# Altium schematic symbol library schematic_library.SchLib: 30 symbols
Pins are listed as number, name and electrical type; pins without a type are passive.

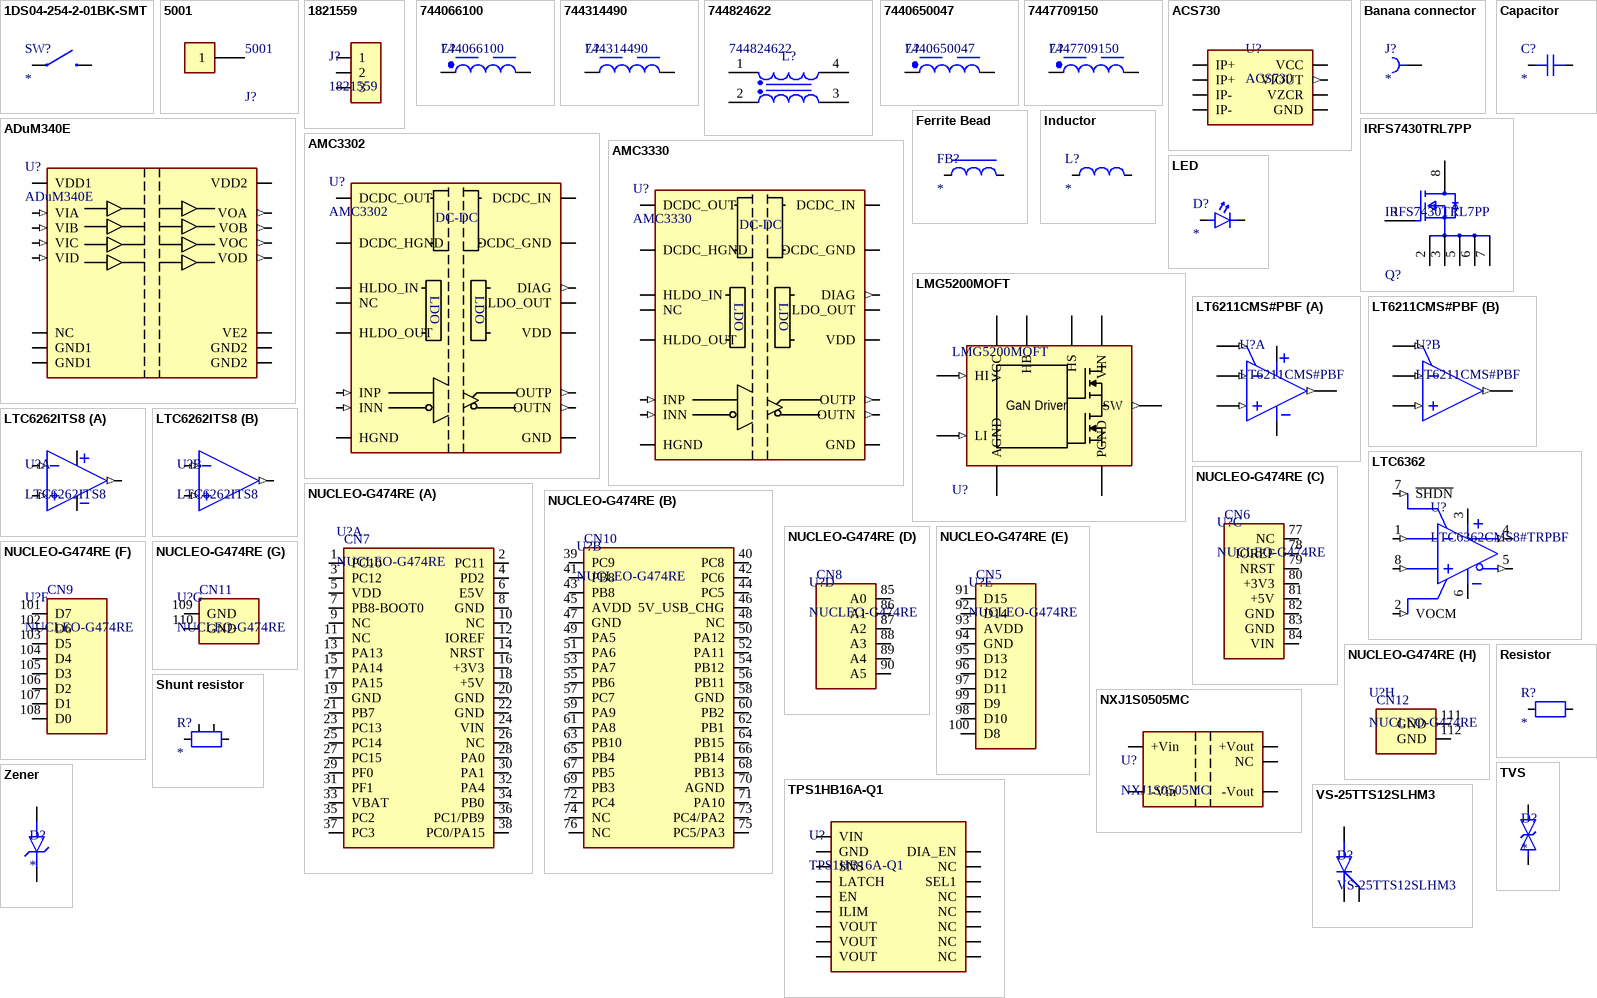
[diagram p0: symbols 1DS04-254-2-01BK-SMT to Zener]

## 1DS04-254-2-01BK-SMT
designator SW?
SPST 24VDC switch; Value: *; HelpURL: *; MPN: *; Supplier: *; SupplierPartNumber: *
footprint SPSTSW
pins: 1, 2

## 5001
designator J?
PC TEST POINT MINIATURE BLACK; Body Material: Bronze; Plating: Silver; Inside Diameter: 1.27mm; Hole Diameter: 1.6mm; Number of Ports: 1; Outside Diameter: 2.54mm; Insulation: Insulated; Insulation Material: Nylon; Mount: Through Hole; RoHS Compliant: Yes; Series: THM; Height: 0.3inch; Termination: Through Hole; Material: Nylon; Packaging: Bulk; Contact Material: Bronze; REACH SVHC: No SVHC; Contact Plating: Silver; Orientation: Straight; Lead Free: Lead Free; Package Quantity: 100; Length: 7.62mm; Flammability Rating: UL94 V-0; Number of Contacts: 1; Diameter: 2.54mm; Housing Color: Black; Color: Black
footprint FP-5001-MFG
pins: 1

## 1821559
designator J?
Value: *; HelpURL: *; MPN: *; Supplier: *; SupplierPartNumber: *
footprint 1844882
pins: 1, 2, 3

## 744066100
designator L?
NexarPartId: 22803276; Tolerance: 30%; Current Rating: 3.6A; Saturation Current: 4A; Shielding: Shielded; Resistance: 28mΩ; DC Resistance (DCR): 25mΩ; Series Resistance: 35mΩ; Inductance: 10µH; Core Material: Ferrite; Test Frequency: 100kHz; Self Resonant Frequency: 20MHz; Ambient Temperature Range Low: -40°C; RoHS: Compliant; Case/Package: Nonstandard; Number of Pins: 2; Width: 10mm; Max Operating Temperature: 125°C; Ambient Temperature Range High: 95°C; Length: 10mm; Min Operating Temperature: -40°C; REACH SVHC: Unknown; Termination: SMD/SMT; Height: 3.8mm; Max DC Current: 3.6A; Mount: Surface Mount; Weight: 1.273007g; Composition: Wirewound; RMS Current (Irms): 3.6A; Inductance Tolerance: 30%; Height - Seated (Max): 4.0894mm; Packaging: Cut Tape (CT); Depth: 10mm
footprint WE-TPC_1038 (Power Inductor, SMD, 2-Leads, body 10x10mm)
pins: 1, 2

## 744314490
designator L?
NexarPartId: 7864302; Self Resonant Frequency: 56MHz; Max DC Current: 6.5A; Tolerance: 20%; Test Frequency: 100kHz; Inductance: 4.9µH; Shielding: Shielded; Series Resistance: 14.5Ω; DC Resistance (DCR): 14.5mΩ; Case/Package: 7050; Number of Pins: 2; Lead Free: Lead Free; REACH SVHC: Unknown; Mount: Surface Mount; Packaging: Cut Tape (CT); Ambient Temperature Range Low: -40°C; Max Operating Temperature: 150°C; Depth: 7.2mm; Height: 4.8mm; Height - Seated (Max): 5.0038mm; Saturation Current: 6.5A; Military Standard: Not; Composition: Wirewound; Inductance Tolerance: 20%; Ambient Temperature Range High: 100°C; Length: 7mm; RoHS: Compliant; Width: 6.9mm; Resistance: 14.5mΩ; Min Operating Temperature: -40°C; Current Rating: 6.5A; Termination: SMD/SMT; RMS Current (Irms): 6.5A
footprint WE-HCI_7050 (SMT Flat Wire High Current Inductor, body 6.9x6.9mm)
pins: 1, 2

## 744824622
designator L?
NexarPartId: 22865134; Inductance Tolerance: 30%; Resistance: 20mΩ; Inductance: 2.2mH; Voltage Rating: 250V; Current Rating: 6A; Pin Length: 5mm; Width: 18.5mm; Ambient Temperature Range Low: -40°C; Min Operating Temperature: -40°C; Ambient Temperature Range High: 70°C; Number of Pins: 4; Packaging: Bulk; Length: 27.5mm; Max Operating Temperature: 125°C; RoHS: Compliant; Height: 33mm
footprint WE-CMB_Type L_L27.5W18.5H33 (Common Mode Power Line Choke, 4-Leads, body 27.5x18.5mm)
pins: 1, 2, 3, 4

## 7440650047
designator L?
NexarPartId: 8917112; Saturation Current: 4.2A; Resistance: 20mΩ; Self Resonant Frequency: 40MHz; Test Frequency: 100kHz; Core Material: Ferrite; Inductance Tolerance: 30%; Shielding: Shielded; Current Rating: 4.6A; Series Resistance: 23mΩ; Inductance: 4.7µH; DC Resistance (DCR): 16.5mΩ; Width: 10mm; Mount: Surface Mount; Depth: 10mm; Ambient Temperature Range High: 95°C; Length: 10mm; Tolerance: 30%; Number of Pins: 2; Ambient Temperature Range Low: -40°C; Packaging: Cut Tape (CT); Height: 2.8mm; Max Operating Temperature: 125°C; Height - Seated (Max): 3.0988mm; Case/Package: Nonstandard; Termination: SMD/SMT; Min Operating Temperature: -40°C; Weight: 880.989781mg; REACH SVHC: Unknown; RMS Current (Irms): 4.6A; Composition: Wirewound; Max DC Current: 4.6A; RoHS: Compliant
footprint WE-TPC_1028 (Power Inductor, SMD, 2-Leads, body 10x10mm)
pins: 1, 2

## 7447709150
designator L?
NexarPartId: 8917162; Max DC Current: 6.5A; Series Resistance: 26mΩ; Inductance: 15µH; Test Frequency: 1kHz; Core Material: Ferrite; Tolerance: 20%; Shielding: Shielded; Self Resonant Frequency: 17MHz; DC Resistance (DCR): 21mΩ; Saturation Current: 8A; Case/Package: Nonstandard; Composition: Wirewound; Case Code (Imperial): 1210; Width: 12mm; Termination: SMD/SMT; Resistance: 26mΩ; Max Operating Temperature: 125°C; Weight: 9.071847g; Min Operating Temperature: -40°C; Current Rating: 6.5A; Lead Free: Lead Free; Depth: 12mm; Mount: Surface Mount; Height - Seated (Max): 10.0076mm; Packaging: Cut Tape (CT); Case Code (Metric): 3225; Length: 12mm; Ambient Temperature Range High: 85°C; REACH SVHC: Unknown; Ambient Temperature Range Low: -40°C; Lead Pitch: 7mm; RoHS: Compliant; Number of Pins: 2; Inductance Tolerance: 20%; Height: 10mm; RMS Current (Irms): 6.5A
footprint WE-PD_1210 (SMT Shielded Power Inductor, 2-leads, body 12x12mm)
pins: 1, 2

## ACS730
designator U?
1 MHz Bandwidth, Galvanically Isolated Current Sensor IC in Small Footprint SOIC8 Package; Value: *; HelpURL: *; MPN: *; Supplier: *; SupplierPartNumber: *
footprint SOIC127P600X175-8N (SOIC, 8-Leads, Body 4,90x3,90mm, Pitch 1,27mm, IPC Medium Density)
pins: 1 IP+, 2 IP+, 3 IP-, 4 IP-, 5 GND (power), 6 VZCR, 7 VIOUT (out), 8 VCC (power)

## ADuM340E
designator U?
5.7 kV rms Quad Digital Isolators; Value: *; HelpURL: *; MPN: *; Supplier: *; SupplierPartNumber: *
footprint SOIC127P1030X265-16N (SOIC, 16-Leads, Body 10,30x7,50mm, Pitch 1,27mm, IPC Medium Density)
pins: 1 VDD1 (power), 2 GND1 (power), 3 VIA (in), 4 VIB (in), 5 VIC (in), 6 VID (in), 7 NC, 8 GND1 (power), 9 GND2 (power), 10 VE2, 11 VOD (out), 12 VOC (out), 13 VOB (out), 14 VOA (out), 15 GND2 (power), 16 VDD2 (power)

## AMC3302
designator U?
±50-mV input, precision current sensing reinforced isolated amplifier with integrated DC/DC; Value: *; HelpURL: *; MPN: *; Supplier: *; SupplierPartNumber: *
footprint SOIC127P1030X265-16N (SOIC, 16-Leads, Body 10,30x7,50mm, Pitch 1,27mm, IPC Medium Density)
pins: 1 DCDC_OUT (power), 2 DCDC_HGND, 3 HLDO_IN (power), 4 NC, 5 HLDO_OUT (power), 6 INP (in), 7 INN (in), 8 HGND, 9 GND (power), 10 OUTN (out), 11 OUTP (out), 12 VDD (power), 13 LDO_OUT (power), 14 DIAG (out), 15 DCDC_GND (power), 16 DCDC_IN (power)
text: DC-DC; LDO

## AMC3330
designator U?
±1-V input, precision voltage sensing reinforced isolated amplifier with integrated DC/DC; Value: *; HelpURL: *; MPN: *; Supplier: *; SupplierPartNumber: *
footprint SOIC127P1030X265-16N (SOIC, 16-Leads, Body 10,30x7,50mm, Pitch 1,27mm, IPC Medium Density)
pins: 1 DCDC_OUT (power), 2 DCDC_HGND (power), 3 HLDO_IN (power), 4 NC, 5 HLDO_OUT (power), 6 INP (in), 7 INN (in), 8 HGND (power), 9 GND (power), 10 OUTN (out), 11 OUTP (out), 12 VDD (power), 13 LDO_OUT (power), 14 DIAG (out), 15 DCDC_GND (power), 16 DCDC_IN (power)
text: DC-DC; LDO

## Banana connector
designator J?
Value: *; HelpURL: *; MPN: *; Supplier: *; SupplierPartNumber: *
footprint 571-0X00
pins: 1

## Capacitor
designator C?
Value: *; HelpURL: *; MPN: *; Supplier: *; SupplierPartNumber: *
footprint CAP0603 (Chip Capacitor, 2-Leads, Body 1,60x0,81mm, IPC Medium Density)
footprint CAP1206 (Chip Capacitor, 2-Leads, Body 3,20x1,60mm, IPC Medium Density)
footprint CAP2220 (Chip Capacitor, 2-Leads, Body 5,70x5,00mm, IPC Medium Density)
footprint WCAP-PSLC_D8H11.7 (Aluminum Polymer Capacitor, Diameter 8mm)
footprint WCAP-PSLC_D8H11.7 - small (Aluminum Polymer Capacitor, Diameter 8mm)
pins: 1, 2

## Ferrite Bead
designator FB?
Value: *; HelpURL: *; MPN: *; Supplier: *; SupplierPartNumber: *
footprint FB0402
footprint RES0603 (Chip Resistor, 2-Leads, Body 1,60x0,80mm, IPC Medium Density)
pins: 1, 2

## Inductor
designator L?
Value: *; HelpURL: *; MPN: *; Supplier: *; SupplierPartNumber: *
footprint WIREWOUNDCHOKE
footprint RES0603 (Chip Resistor, 2-Leads, Body 1,60x0,80mm, IPC Medium Density)
footprint FP-IHLP-3232DZ-FP_2_413x5-MFG
footprint FP-8200-MFG
pins: 1, 2

## IRFS7430TRL7PP
designator Q?
MOSFET N-CH 40V 240A D2PAK; Threshold Voltage: 3V; Gate to Source Voltage (Vgs): 20V; Rds On Max: 0.75mR; Input Capacitance: 13.975nF; Max Power Dissipation: 375W; Rise Time: 79ns; Mount: Surface Mount; Halogen Free: Halogen Free; Max Dual Supply Voltage: 40V; Number of Pins: 7; REACH SVHC: No SVHC; RoHS Compliant: Yes; Case/Package: TO-263-7; Lead Free: Contains Lead; Min Operating Temperature: -55°C; Drain to Source Voltage (Vdss): 40V; Packaging: Tape and Reel; Max Operating Temperature: 175°C; Continuous Drain Current (ID): 240A
footprint FP-PG-TO263-7-MFG
pins: 1 G, 2 S, 3 S, 5 S, 6 S, 7 S, 8 D

## LED
designator D?
Value: *; HelpURL: *; MPN: *; Supplier: *; SupplierPartNumber: *
footprint LED0603 (Chip Diode, 2-Leads, Body 1,60x0,80mm, IPC Medium Density)
pins: 1, 2

## LMG5200MOFT
designator U?
10-A GaN Half-Bridge Power Stage; Output Current per Channel: 10A; Interface: Logic; Min Operating Temperature: -40°C; Mount: Surface Mount; Case/Package: QFN; RoHS Compliant: Yes; Packaging: Cut Tape; Max Operating Temperature: 125°C; Number of Pins: 9
footprint FP-MOF0009A-MFG
pins: 1 VIN, 2 HB, 3 HS, 4 HI (in), 5 LI (in), 6 VCC (power), 7 AGND (power), 8 SW (out), 9 PGND (power)
text: GaN Driver

## LT6211CMS#PBF
designator U?
Dual Channel, Adjustable Speed and Power Current Feedback Amplifier, 200 MHz Typical GBW, 700 V/us Typical SR, 3 to 13.2 V, 10-Pin SOP (MS-10), Commercial, Pb-Free; Manufacturer: Linear Technology; Linear Technology Part Number: LT6211; Is (mA) Typical: 5.8; Vs Min (V): 3; Channels (#): 2; GBW (MHz) Typical: 200; Vs Max (V): 13.2; SR (V/us) Typical: 700; Vos (mV) Typical: 1; Vos (mV) Guaranteed: 6; ComponentLink3Description: Package Specification; Type: CFA; ComponentLink2URL: http://cds.linear.com/docs/en/datasheet/62101fc.pdf; ComponentLink2Description: Datasheet; ComponentLink1URL: http://www.linear.com/; ComponentLink1Description: Manufacturer URL; RoHS: Pb-Free; PackageVersion: Rev E; RevisionNote: URLs updated; PackageDescription: 10-Lead Plastic MSOP, Body 3 x 3 mm, Pitch 0.5 mm; PartNumber: LT6211CMS#PBF; PackageReference: LT-MS-10; ComponentLink3URL: http://cds.linear.com/docs/en/packaging/MSOP_10_05-08-1661.pdf; Mounting Technology: Surface Mount; DatasheetVersion: Rev. C
footprint TSSOP50P490X110-10N (TSSOP, 10-Leads, Body 3,00x3,00mm, Pitch 0,50mm, IPC Medium Density)
part A pins: 1 OUT A (out), 2 -IN A (in), 3 +IN A (in), 4 ISET A (in), 5 V+ (power), 10 V- (power)
part B pins: 6 ISET B (in), 7 +IN B (in), 8 -IN B (in), 9 OUT B (out)

## LTC6262ITS8
designator U?
Op Amps 2x 30MHz, 240 A Pwr Eff R2R I/O Op Amps; Value: *; HelpURL: *; MPN: *; Supplier: *; SupplierPartNumber: *
footprint TSOP65P280X100-8N (TSOP, 8-Leads, Body 2,90x1,63mm, Pitch 0,65mm, IPC Medium Density)
part A pins: 1 OUTA (out), 2 -INA (in), 3 +INB (in), 4 -V, 8 +V
part B pins: 5 +INB (in), 6 -INB (in), 7 OUTB (out)

## LTC6362
designator U?, comment LTC6362CMS8#TRPBF
Single Channel, Precision, Low Power Differential Operational Amplifier / SAR ADC Driver, RRIO, 180 MHz Typical GBW, 45 V/us Typical SR, 2.8 to 5.25 V, 8-Pin SOP (MS8-8), Commercial, Pb-Free, Reel; Manufacturer: Linear Technology; Vs Max (V): 5.25; GBW (MHz) Typical: 180; Is (mA) Typical: 0.9; SR (V/us) Typical: 45; Vos (mV) Typical: 0.05; Vs Min (V): 2.8; Channels (#): 1; ComponentLink3URL: http://cds.linear.com/docs/en/packaging/05081610_G_SO8.pdf; PartNumber: LTC6362CMS8#TRPBF; ComponentLink2Description: Datasheet; DatasheetVersion: Rev. A; PackageVersion: Rev G; ComponentLink2URL: http://cds.linear.com/docs/en/datasheet/6362fa.pdf; RoHS: Pb-Free; Packing: Reel; Linear Technology Part Number: LTC6362; ComponentLink1URL: http://www.linear.com/; Mounting Technology: Surface Mount; ComponentLink1Description: Manufacturer URL; Type: DIFF; RevisionNote: URLs updated; ComponentLink3Description: Package Specification; PackageReference: LT-MS8-8; PackageDescription: 8-Lead Plastic Small Outline, Body 3.9 x 4.9 mm, Pitch 1.27 mm
footprint LT-MS8-8_M (SOP, 8-Leads, Body 3x3mm, Pitch 0.65mm, IPC Low Density)
pins: 1 -IN (in) "Inverting Input of Amplifier. Valid input range is from V- to V+.", 2 VOCM (in) "Output Common Mode Reference Voltage. The voltage on this pin sets the output common mode voltage level. If left floating, an internal resistor divider develops a default voltage of 2.5V with a 5V supply.", 3 V+ (power) "Positive Power Supply. Operational supply range is 2.8V to 5.25V when V- = 0V", 4 +OUT (out) "Positive Output Pin. Output capable of swinging rail-to-rail.", 5 -OUT (out) "Negative Output Pin. Output capable of swinging rail-to-rail.", 6 V- (power) "Negative Power Supply, Typically 0V. Negative supply can be negative as long as 2.8V =< (V+ - V-) =< 5.25V still holds.", 7 ~{SHDN} (in) "When S\H\D\N\ is floating or directly tied to V+ the LTC6362 is in the normal (active) operating mode. When the S\H\D\N\ pin is connected to V-, the part is disabled and draws approximately 70uA of supply current.", 8 +IN (in) "Noninverting Input of Amplifier. Valid input range is from V- to V+."

## NUCLEO-G474RE
designator U?
STM32 Nucleo-64 development board with STM32G474RE MCU, supports Arduino and ST morpho connectivity; Value: *; HelpURL: *; MPN: *; Supplier: *; SupplierPartNumber: *
footprint G474RE
part A pins: 1 PC10, 2 PC11, 3 PC12, 4 PD2, 5 VDD, 6 E5V, 7 PB8-BOOT0, 8 GND, 9 NC, 10 NC, 11 NC, 12 IOREF, 13 PA13, 14 NRST, 15 PA14, 16 +3V3, 17 PA15, 18 +5V, 19 GND, 20 GND, 21 PB7, 22 GND, 23 PC13, 24 VIN, 25 PC14, 26 NC, 27 PC15, 28 PA0, 29 PF0, 30 PA1, 31 PF1, 32 PA4, 33 VBAT, 34 PB0, 35 PC2, 36 PC1/PB9, 37 PC3, 38 PC0/PA15
part B pins: 39 PC9, 40 PC8, 41 PB8, 42 PC6, 43 PB8, 44 PC5, 45 AVDD, 46 5V_USB_CHG, 47 GND, 48 NC, 49 PA5, 50 PA12, 51 PA6, 52 PA11, 53 PA7, 54 PB12, 55 PB6, 56 PB11, 57 PC7, 58 GND, 59 PA9, 60 PB2, 61 PA8, 62 PB1, 63 PB10, 64 PB15, 65 PB4, 66 PB14, 67 PB5, 68 PB13, 69 PB3, 70 AGND, 71 PA10, 72 PC4, 73 PC4/PA2, 74 NC, 75 PC5/PA3, 76 NC
part C pins: 77 NC, 78 IOREF, 79 NRST, 80 +3V3, 81 +5V, 82 GND, 83 GND, 84 VIN
part D pins: 85 A0, 86 A1, 87 A2, 88 A3, 89 A4, 90 A5
part E pins: 91 D15, 92 D14, 93 AVDD, 94 GND, 95 D13, 96 D12, 97 D11, 98 D10, 99 D9, 100 D8
part F pins: 101 D7, 102 D6, 103 D5, 104 D4, 105 D3, 106 D2, 107 D1, 108 D0
part G pins: 109 GND, 110 GND
part H pins: 111 GND, 112 GND
part A text: CN7
part B text: CN10
part C text: CN6
part D text: CN8
part E text: CN5
part F text: CN9
part G text: CN11
part H text: CN12

## NXJ1S0505MC
designator U?
Isolated DC/DC Converters - SMD SM 1W 5V-5V SINGLE 4.2KV; Value: *; HelpURL: *; MPN: *; Supplier: *; SupplierPartNumber: *
footprint NXJ1
pins: 1 -Vin, 3 +Vin, 7 -Vout, 8 +Vout, 14 NC

## Resistor
designator R?
Value: *; HelpURL: *; MPN: *; Supplier: *; SupplierPartNumber: *
footprint RES0603 (Chip Resistor, 2-Leads, Body 1,60x0,80mm, IPC Medium Density)
pins: 1, 2

## Shunt resistor
designator R?
0.008 Ohm Current Sense Resistor; Value: *; HelpURL: *; MPN: *; Supplier: *; SupplierPartNumber: *
footprint WSL3637
pins: 1, 2, 3, 4

## TPS1HB16A-Q1
designator U?
40-V, 16-mΩ, 1-ch automotive smart high-side switch with adjustable current limit; Value: *; HelpURL: *; MPN: *; Supplier: *; SupplierPartNumber: *
footprint TSOP65P640X120_HS-17N (TSOP, 16-Leads, Body 5,00x4,40mm, Pitch 0,65mm, Thermal Pad 3,40x2,80mm, IPC Medium Density)
pins: 1 GND, 2 SNS, 3 LATCH, 4 EN, 5 ILIM, 6 VOUT, 7 VOUT, 8 VOUT, 9 NC, 10 NC, 11 NC, 12 NC, 13 NC, 14 SEL1, 15 NC, 16 DIA_EN, 17 VIN

## TVS
designator D?
Value: *; HelpURL: *; MPN: *; Supplier: *; SupplierPartNumber: *
footprint DIOM4336X24N (Molded Diode, 2-Leads, Body 4,32x3,63mm, IPC Medium Density)
pins: 1, 2

## VS-25TTS12SLHM3
designator D?
Thyristor, Surface Mount, Phase Control SCR, 16 A; Value: *; HelpURL: *; MPN: *; Supplier: *; SupplierPartNumber: *; Supplier 1: Mouser; Supplier Part Number 1: 78-VS-25TTS12SLHM3
footprint DPAK254P1524X483-3N (D2-PAK, 3-Pads, Body 7,93x8,70mm (max), IPC Medium Density)
pins: 1 Cathode, 3 Gate, 4 Anode

## Zener
designator D?
Value: *; HelpURL: *; MPN: *; Supplier: *; SupplierPartNumber: *
footprint DIOM5334X23N (Molded Diode, 2-Leads, Body 5,33x3,43mm, IPC Medium Density)
pins: 1 Cathode, 2 Anode